# Altium footprint library L50T-TEST.PcbLib: 34 footprints (part 1 of 3)
Each footprint in its own frame and in the unit in brackets; x right, y up, seen from the top. Pads: shape width x height; smd on the part's side, far side on the other; paste and mask are expansions set on the pad; w line width, h text height; cw(c..) or ccw(c..) is an arc to the next point about the centre after c.
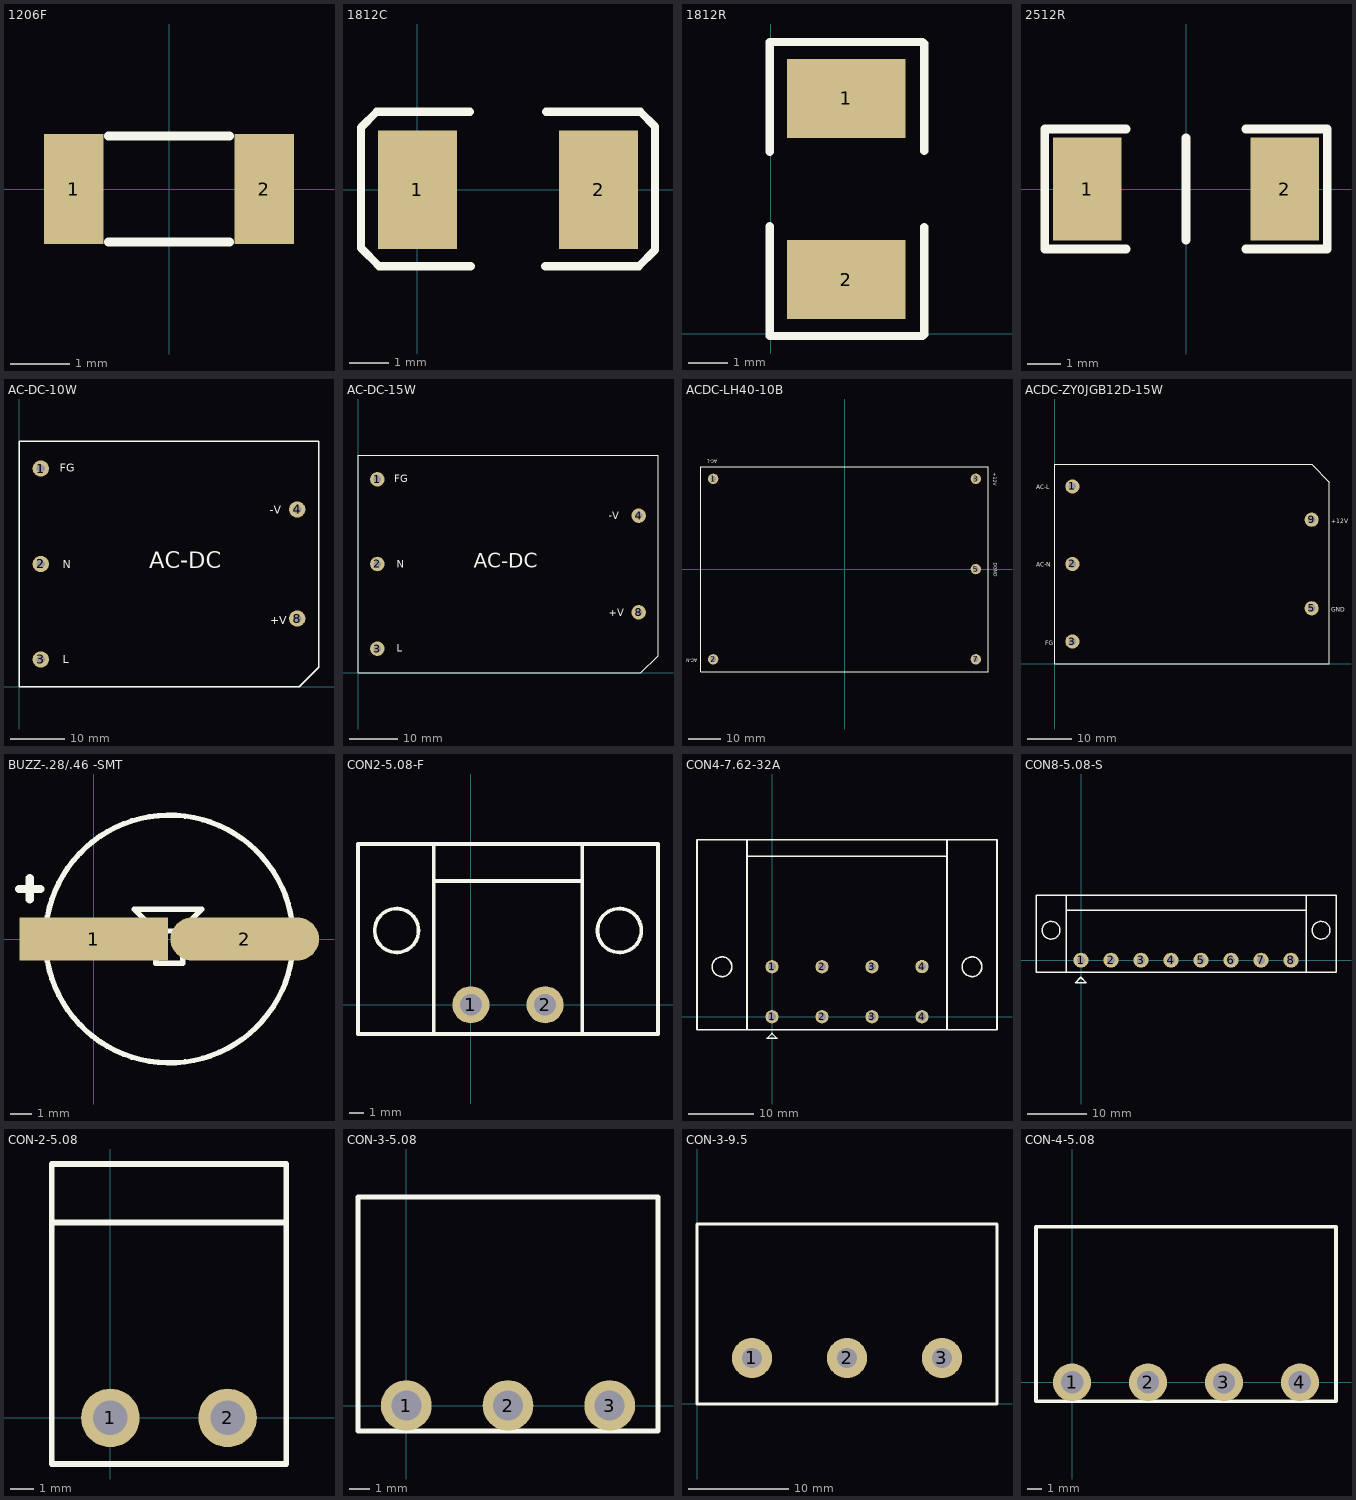
[diagram p0: the footprints below, top view; thin cyan lines are the x and y axes]

## 1206F [mm] "Chip Capacitor, 2-Leads, Body 3.25x1.65mm, IPC Medium Density"
height 0.9
pads (2):
  rect 1x1.85 smd: 1(-1.6,0) 2(1.6,0)
Top Overlay:
  lines w0.152: -1.016,-0.889 1.016,-0.889 ; -1.016,0.889 -0.508,0.889 0.508,0.889 1.016,0.889
3D body "User Library-Litttlefuse 12061206L012.STEP": height 1.43, standoff -0.03, extent -1.601,-0.826 1.601,0.826

## 1812C [mm]
height 2.032
pads (2):
  rect 2x3 smd: 1(0,0) 2(4.572,0)
Top Overlay:
  lines w0.203: -1.411,-1.485 -1.016,-1.88 ; -0.914,-1.93 1.346,-1.93 -0.965,-1.93 -1.422,-1.473 -1.422,1.575 ; -0.89,1.97 1.332,1.97 ; 1.016,1.97 1.332,1.97 ; 3.556,1.97 3.24,1.97 ; 5.462,1.97 3.24,1.97 ; 5.486,-1.93 3.226,-1.93 5.588,-1.93 5.983,-1.536 ; 5.994,-1.524 5.994,1.6 5.625,1.97 3.24,1.97 ; -1.422,1.575 -1.028,1.97 ; -1.422,1.575 -1.028,1.97 ; -1.028,1.97 1.332,1.97

## 1812R [mm]
pads (2):
  rect 3x2 smd: 1(1.905,5.944) 2(1.905,1.372)
Top Overlay:
  lines w0.203: -0.025,0.457 -0.025,2.718 ; -0.025,6.858 -0.025,4.597 ; 3.875,0.482 3.875,2.704 ; 3.875,2.388 3.875,2.704 ; 3.875,4.928 3.875,4.611 ; 3.875,6.834 3.875,4.611 ; -0.025,-0.051 -0.025,2.718 ; -0.025,-0.051 3.835,-0.051 3.875,-0.012 3.875,2.704 ; -0.025,-0.051 -0.025,2.718 ; -0.025,4.597 -0.025,7.366 ; -0.025,4.597 -0.025,7.366 ; -0.025,7.366 3.835,7.366 3.875,7.327 3.875,4.611

## 2512R [mil]
pads (2):
  rect 80x120 smd: 1(-115,0) 2(115,0)
Top Overlay:
  lines w10: -70,-70 -165,-70 -165,70 -70,70 ; 0,-60 0,60 ; 70,-70 165,-70 165,70 70,70
3D body "User Library-RESC6432X06.STEP": height 23.62, standoff 0, extent -125.98,-62.99 125.99,63

## AC-DC-10W [mm]
height 0.572
pads (5):
  round 3 hole 1.5: 1(4,40) 2(4,22.5) 3(4,5) 4(51,32.5) 8(51,12.5)
Top Overlay:
  lines w0.254: 0,0 51.42,0 55,3.58 55,45 0,45 0,0
  text "AC-DC" at 23.876,21.717 h3
  text "+V" at 46.101,11.43 h1.5
  text "-V" at 45.974,31.75 h1.5
  text "L" at 8.001,4.318 h1.5
  text "N" at 8.001,21.717 h1.5
  text "FG" at 7.493,39.37 h1.5

## AC-DC-15W [mm]
height 0.572
pads (5):
  round 3 hole 1.5: 1(4,40) 2(4,22.5) 3(4,5) 4(58,32.5) 8(58,12.5)
Top Overlay:
  lines w0.254: 0,0 58.42,0 62,3.58 62,45 0,45 0,0
  text "AC-DC" at 23.876,21.717 h3
  text "+V" at 51.816,11.684 h1.5
  text "-V" at 51.816,31.75 h1.5
  text "L" at 8.001,4.318 h1.5
  text "N" at 8.001,21.717 h1.5
  text "FG" at 7.493,39.37 h1.5

## ACDC-LH40-10B [mm]
pads (5):
  round 3.2 hole 1.7: 1(-40.65,27.94) 2(-40.65,-27.94) 3(40.65,27.94) 5(40.65,0) 7(40.65,-27.94)
Top Overlay:
  lines w0.254: -44.5,-31.75 44.5,-31.75 44.5,31.75 -44.5,31.75 -44.5,-31.75
  text "AC-L" at -39.345,33.884 h1.02
  text "AC-N" at -45.669,-27.711 h1.02
  text "DGND" at 46.177,1.905 h1.02
  text "+12V" at 46.101,29.743 h1.02

## ACDC-ZY0JGB12D-15W [mm] "AC-DC模块"
pads (5):
  round 3.2 hole 1.7: 1(4,40) 2(4,22.5) 3(4,5) 5(58,12.5) 9(58,32.5)
Top Overlay:
  lines w0.254: 0,0 62,0 62,41 58,45 54,45 0,45 0,0
  text "GND" at 62.459,11.684 h1.02
  text "+12V" at 62.484,31.75 h1.02
  text "FG" at -2.159,4.191 h1.02
  text "AC-N" at -4.216,21.869 h1.02
  text "AC-L" at -4.216,39.395 h1.02

## BUZZ-.28/.46 -SMT [mil]
pads (2):
  rect 275.59x80 smd: 1(0,0)
  oval 275.59x80 smd: 2(280,0)
Top Overlay:
  circle w10: c140,0 r230
  lines w10: 52,1 115,1 ; 165,1 228,1 ; 165,19.94 200,54.94 75,54.94 115,14.94 ; 115,14.94 115,-45.06 165,-45.06 165,14.94 115,14.94
  lines w15: -139,93 -99,93 ; -119,73 -119,113

## CON2-5.08-F [mil]
pads (2):
  round 100 hole 59: 1(0,0) 2(200,0)
Top Overlay:
  circle w10: c-200,200 r59.06
  circle w10: c400,200 r59.06
  lines w10: -100,333.07 300,333.07 ; -100,-78.74 300,-78.74 ; -100,-78.74 -100,433.07 ; -100,-78.74 -303.94,-78.74 -303.94,433.07 -100,433.07 ; -100,433.07 300,433.07 ; 300,-78.74 300,433.07 ; 300,-78.74 503.94,-78.74 503.94,433.07 300,433.07

## CON4-7.62-32A [mil]
pads (8):
  round 80 hole 50: 1(0,0) 1(0,300) 2(300,0) 2(300,300) 3(600,0) 3(600,300) 4(900,0) 4(900,301)
Top Overlay:
  circle w10: c-300,300 r59.06
  circle w10: c1200,300 r59.06
  lines w10: -150,962.99 1050,962.99 ; -150,-78.74 -150,1062.99 ; -150,-78.74 1050,-78.74 ; -150,-78.74 -450,-78.74 -450,1062.99 -150,1062.99 ; -150,1062.99 1050,1062.99 ; 1050,-78.74 1050,1062.99 ; 1050,-78.74 1350,-78.74 1350,1062.99 1050,1062.99 ; -30,-130 30,-130 0,-100 -30,-130

## CON8-5.08-S [mil]
pads (8):
  round 100 hole 56: 1(0,0) 2(200,0) 3(400,0) 4(600,0) 5(800,0) 6(1000,0) 7(1200,0) 8(1400,0)
Top Overlay:
  circle w10: c1600,200 r59.06
  circle w10: c-200,200 r59.06
  lines w10: -100,333.07 1500,333.07 ; -100,-78.74 -300,-78.74 -300,433.07 -100,433.07 ; -100,-78.74 1500,-78.74 ; -100,-78.74 -100,433.07 ; -100,433.07 1500,433.07 ; 1500,-78.74 1700,-78.74 1700,433.07 1500,433.07 ; 1500,-78.74 1500,433.07 ; -37,-150 -36,-149 34,-149 -1,-114 -37,-150

## CON-2-5.08 [mil]
pads (2):
  round 100 hole 59: 1(0,0) 2(200,0)
Top Overlay:
  lines w10: -100,333.07 300,333.07 ; -100,-78.74 -100,433.07 300,433.07 300,-78.74 -100,-78.74

## CON-3-5.08 [mil]
pads (3):
  round 100 hole 59: 1(0,0) 2(200,0) 3(400,0)
Top Overlay:
  lines w10: -95,-50 -95,410 495,410 495,-50 -95,-50

## CON-3-9.5 [mm] "栅栏式接线端子"
pads (3):
  round 4 hole 2: 1(5.5,4.6) 2(15,4.6) 3(24.5,4.6)
Top Overlay:
  lines w0.254: 0,0 0,18 30,18 30,0 0,0

## CON-4-5.08 [mil]
pads (4):
  round 100 hole 59: 1(0,0) 2(200,0) 3(400,0) 4(600,0)
Top Overlay:
  lines w10: -95,-50 695,-50 695,410 -95,410 -95,-50